# Altium footprint library CubSat.PcbLib: 5 footprints
Each footprint in its own frame and in the unit in brackets; x right, y up, seen from the top. Pads: shape width x height; smd on the part's side, far side on the other; paste and mask are expansions set on the pad; w line width, h text height; cw(c..) or ccw(c..) is an arc to the next point about the centre after c.
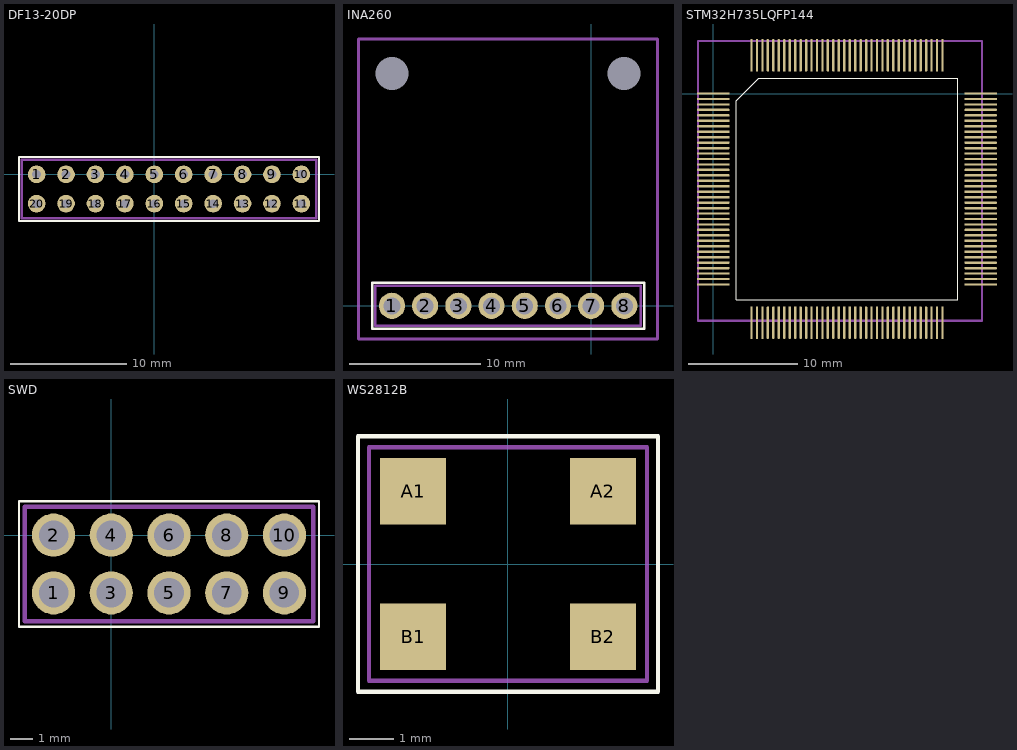
[diagram p0: the footprints below, top view; thin cyan lines are the x and y axes]

## DF13-20DP [mil]
pads (20):
  round 60 hole 30: 1(-400,0) 2(-300,0) 3(-200,0) 4(-100,0) 5(0,0) 6(100,0) 7(200,0) 8(300,0) 9(400,0) 10(500,0) 11(500,-100) 12(400,-100) 13(300,-100) 14(200,-100) 15(100,-100) 16(0,-100) 17(-100,-100) 18(-200,-100) 19(-300,-100) 20(-400,-100)
Top Overlay:
  lines w7.87: -459.84,-158.86 -459.84,58.86 559.84,58.86 559.84,-158.86 -459.84,-158.86
Top Designator:
  text ".Designator" at -249.9,-69.99 h60
Mechanical 2:
  lines w7.87: -450,-149.02 -450,49.02 550,49.02 550,-149.02 -450,-149.02
3D body "1 way-Header_Male_1Pin (3).STEP": height 336.22, standoff -118.11, extent -450,-49.02 -350,49.02
3D body "1 way-Header_Male_1Pin (3).STEP": height 336.22, standoff -118.11, extent -350,-49.02 -250,49.02
3D body "1 way-Header_Male_1Pin (3).STEP": height 336.22, standoff -118.11, extent -250,-49.02 -150,49.02
3D body "1 way-Header_Male_1Pin (3).STEP": height 336.22, standoff -118.11, extent -150,-49.02 -50,49.02
3D body "1 way-Header_Male_1Pin (3).STEP": height 336.22, standoff -118.11, extent -50,-49.02 50,49.02
3D body "1 way-Header_Male_1Pin (3).STEP": height 336.22, standoff -118.11, extent 50,-49.02 150,49.02
3D body "1 way-Header_Male_1Pin (3).STEP": height 336.22, standoff -118.11, extent 150,-49.02 250,49.02
3D body "1 way-Header_Male_1Pin (3).STEP": height 336.22, standoff -118.11, extent 250,-49.02 350,49.02
3D body "1 way-Header_Male_1Pin (3).STEP": height 336.22, standoff -118.11, extent 350,-49.02 450,49.02
3D body "1 way-Header_Male_1Pin (3).STEP": height 336.22, standoff -118.11, extent 450,-49.02 550,49.02
3D body "1 way-Header_Male_1Pin (3).STEP": height 336.22, standoff -118.11, extent 450,-149.02 550,-50.98
3D body "1 way-Header_Male_1Pin (3).STEP": height 336.22, standoff -118.11, extent 350,-149.02 450,-50.98
3D body "1 way-Header_Male_1Pin (3).STEP": height 336.22, standoff -118.11, extent 250,-149.02 350,-50.98
3D body "1 way-Header_Male_1Pin (3).STEP": height 336.22, standoff -118.11, extent 150,-149.02 250,-50.98
3D body "1 way-Header_Male_1Pin (3).STEP": height 336.22, standoff -118.11, extent 50,-149.02 150,-50.98
3D body "1 way-Header_Male_1Pin (3).STEP": height 336.22, standoff -118.11, extent -50,-149.02 50,-50.98
3D body "1 way-Header_Male_1Pin (3).STEP": height 336.22, standoff -118.11, extent -150,-149.02 -50,-50.98
3D body "1 way-Header_Male_1Pin (3).STEP": height 336.22, standoff -118.11, extent -250,-149.02 -150,-50.98
3D body "1 way-Header_Male_1Pin (3).STEP": height 336.22, standoff -118.11, extent -350,-149.02 -250,-50.98
3D body "1 way-Header_Male_1Pin (3).STEP": height 336.22, standoff -118.11, extent -450,-149.02 -350,-50.98

## INA260 [mm]
pads (10):
  round 2 hole 1.3: 1(-15.24,0) 2(-12.7,0) 3(-10.16,0) 4(-7.62,0) 5(-5.08,0) 6(-2.54,0) 7(0,0) 8(2.54,0)
  round 0 hole 2.54: 30(2.519,17.771) 31(-15.24,17.78)
Top Overlay:
  lines w0.2: -16.76,-1.77 -16.76,1.77 4.06,1.77 4.06,-1.77 -16.76,-1.77
Top Designator:
  text ".Designator" at -13.978,8.428 h1.52
Mechanical 2:
  lines w0.2: -17.801,-2.54 -17.801,20.411 5.08,20.411 5.08,-2.54 -17.801,-2.54 ; -16.51,-1.52 3.81,-1.52 3.81,1.52 -16.51,1.52 -16.51,-1.52
3D body "zl262-1s_p2-54_l2-54_w2-54_h8-5.stp": height 8.5, standoff -3, extent -1.27,-1.52 1.27,1.52
3D body "Adafruit INA260 Breakout Board.step": height 22.39, standoff 2.01, extent -17.801,-2.549 5.059,20.411
3D body "zl262-1s_p2-54_l2-54_w2-54_h8-5.stp": height 8.5, standoff -3, extent -3.81,-1.52 -1.27,1.52
3D body "zl262-1s_p2-54_l2-54_w2-54_h8-5.stp": height 8.5, standoff -3, extent -6.35,-1.52 -3.81,1.52
3D body "zl262-1s_p2-54_l2-54_w2-54_h8-5.stp": height 8.5, standoff -3, extent -8.89,-1.52 -6.35,1.52
3D body "zl262-1s_p2-54_l2-54_w2-54_h8-5.stp": height 8.5, standoff -3, extent 1.27,-1.52 3.81,1.52
3D body "zl262-1s_p2-54_l2-54_w2-54_h8-5.stp": height 8.5, standoff -3, extent -11.43,-1.52 -8.89,1.52
3D body "zl262-1s_p2-54_l2-54_w2-54_h8-5.stp": height 8.5, standoff -3, extent -13.97,-1.52 -11.43,1.52
3D body "zl262-1s_p2-54_l2-54_w2-54_h8-5.stp": height 8.5, standoff -3, extent -16.51,-1.52 -13.97,1.52

## STM32H735LQFP144 [mm]
pads (144):
  oval 3x0.22 smd: 1(0,0) 2(0,-0.5) 3(0,-1) 4(0,-1.5) 5(0,-2) 6(0,-2.5) 7(0,-3) 8(0,-3.5) 9(0,-4) 10(0,-4.5) 11(0,-5) 12(0,-5.5) 13(0,-6) 14(0,-6.5) 15(0,-7) 16(0,-7.5) 17(0,-8) 18(0,-8.5) 19(0,-9) 20(0,-9.5) 21(0,-10) 22(0,-10.5) 23(0,-11) 24(0,-11.5) 25(0,-12) 26(0,-12.5) 27(0,-13) 28(0,-13.5) 29(0,-14) 30(0,-14.5) 31(0,-15) 32(0,-15.5) 33(0,-16) 34(0,-16.5) 35(0,-17) 36(0,-17.5) 73(24.5,-17.5) 74(24.5,-17) 75(24.5,-16.5) 76(24.5,-16) 77(24.5,-15.5) 78(24.5,-15) 79(24.5,-14.5) 80(24.5,-14) 81(24.5,-13.5) 82(24.5,-13) 83(24.5,-12.5) 84(24.5,-12) 85(24.5,-11.5) 86(24.5,-11) 87(24.5,-10.5) 88(24.5,-10) 89(24.5,-9.5) 90(24.5,-9) 91(24.5,-8.5) 92(24.5,-8) 93(24.5,-7.5) 94(24.5,-7) 95(24.5,-6.5) 96(24.5,-6) 97(24.5,-5.5) 98(24.5,-5) 99(24.5,-4.5) 100(24.5,-4) 101(24.5,-3.5) 102(24.5,-3) 103(24.5,-2.5) 104(24.5,-2) 105(24.5,-1.5) 106(24.5,-1) 107(24.5,-0.5) 108(24.5,0)
  oval 0.22x3 smd: 37(3.5,-21) 38(4,-21) 39(4.5,-21) 40(5,-21) 41(5.5,-21) 42(6,-21) 43(6.5,-21) 44(7,-21) 45(7.5,-21) 46(8,-21) 47(8.5,-21) 48(9,-21) 49(9.5,-21) 50(10,-21) 51(10.5,-21) 52(11,-21) 53(11.5,-21) 54(12,-21) 55(12.5,-21) 56(13,-21) 57(13.5,-21) 58(14,-21) 59(14.5,-21) 60(15,-21) 61(15.5,-21) 62(16,-21) 63(16.5,-21) 64(17,-21) 65(17.5,-21) 66(18,-21) 67(18.5,-21) 68(19,-21) 69(19.5,-21) 70(20,-21) 71(20.5,-21) 72(21,-21) 109(21,3.5) 110(20.5,3.5) 111(20,3.5) 112(19.5,3.5) 113(19,3.5) 114(18.5,3.5) 115(18,3.5) 116(17.5,3.5) 117(17,3.5) 118(16.5,3.5) 119(16,3.5) 120(15.5,3.5) 121(15,3.5) 122(14.5,3.5) 123(14,3.5) 124(13.5,3.5) 125(13,3.5) 126(12.5,3.5) 127(12,3.5) 128(11.5,3.5) 129(11,3.5) 130(10.5,3.5) 131(10,3.5) 132(9.5,3.5) 133(9,3.5) 134(8.5,3.5) 135(8,3.5) 136(7.5,3.5) 137(7,3.5) 138(6.5,3.5) 139(6,3.5) 140(5.5,3.5) 141(5,3.5) 142(4.5,3.5) 143(4,3.5) 144(3.5,3.5)
Top Overlay:
  lines w0.1: 2.085,-18.915 2.085,-0.67 4.17,1.415 22.415,1.415 22.415,-18.915 2.085,-18.915
Top Designator:
  text ".Designator" at 4.632,-9.258 h1.52
Mechanical 2:
  lines w0.2: -1.397,-20.828 -1.397,4.826 24.638,4.826 24.638,-20.828 -1.397,-20.828
3D body "STM32H735.STEP": height 1.87, standoff 0.01, extent -1.377,-20.769 24.629,4.825

## SWD [mm] "connector"
pads (10):
  round 1.9 hole 1.3: 1(-2.54,-2.54) 2(-2.54,0) 3(0,-2.54) 4(0,0) 5(2.54,-2.54) 6(2.54,0) 7(5.08,-2.54) 8(5.08,0) 9(7.62,-2.54) 10(7.62,0)
Top Overlay:
  lines w0.1: -4.06,-4.035 9.14,-4.035 9.14,1.495 -4.06,1.495 -4.06,-4.035
Top Designator:
  text ".Designator" at -5.078,-1.778 h1.52
Mechanical 2:
  lines w0.2: -3.81,-3.785 -3.81,1.245 8.89,1.245 8.89,-3.785 -3.81,-3.785
3D body "1 way-Header_Male_1Pin (3).STEP": height 8.54, standoff -3, extent -1.27,-1.245 1.27,1.245
3D body "1 way-Header_Male_1Pin (3).STEP": height 8.54, standoff -3, extent 1.27,-1.245 3.81,1.245
3D body "1 way-Header_Male_1Pin (3).STEP": height 8.54, standoff -3, extent 3.81,-1.245 6.35,1.245
3D body "1 way-Header_Male_1Pin (3).STEP": height 8.54, standoff -3, extent 6.35,-1.245 8.89,1.245
3D body "1 way-Header_Male_1Pin (3).STEP": height 8.54, standoff -3, extent -3.81,-1.245 -1.27,1.245
3D body "1 way-Header_Male_1Pin (3).STEP": height 8.54, standoff -3, extent -3.81,-3.785 -1.27,-1.295
3D body "1 way-Header_Male_1Pin (3).STEP": height 8.54, standoff -3, extent -1.27,-3.785 1.27,-1.295
3D body "1 way-Header_Male_1Pin (3).STEP": height 8.54, standoff -3, extent 1.27,-3.785 3.81,-1.295
3D body "1 way-Header_Male_1Pin (3).STEP": height 8.54, standoff -3, extent 3.81,-3.785 6.35,-1.295
3D body "1 way-Header_Male_1Pin (3).STEP": height 8.54, standoff -3, extent 6.35,-3.785 8.89,-1.295

## WS2812B [mm]
pads (4):
  rect 1.5x1.5 smd: A1(-2.15,1.65) A2(2.15,1.65) B1(-2.15,-1.65) B2(2.15,-1.65)
Top Overlay:
  lines w0.1: -3.4,-2.9 -3.4,2.9 3.4,2.9 3.4,-2.9 -3.4,-2.9
Top Designator:
  text ".Designator" at -7.618,-0.508 h1.52
Mechanical 2:
  lines w0.1: -3.15,-2.65 3.15,-2.65 3.15,2.65 -3.15,2.65 -3.15,-2.65